# EAGLE library part 25P_SMT_D (library NewSDR)
Samtec 25 pin Surface Mount D-Sub Plug
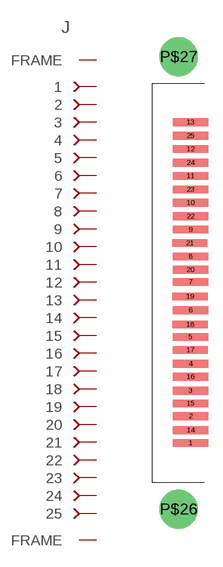
[diagram p4: symbol with the pads of 25P_SMD_D; footprint 25P_SMD_D]

Designator prefix J

## 25P_SMT_D  [25P_SMD_D]
1  1
2  2
3  3
4  4
5  5
6  6
7  7
8  8
9  9
10  10
11  11
12  12
13  13
14  14
15  15
16  16
17  17
18  18
19  19
20  20
21  21
22  22
23  23
24  24
25  25
P$26  FRAME
P$27  FRAME

## Footprint 25P_SMD_D (pad centres in mm)
Samtec 25 Pin Surface Mount D-SUB Plug
smd 3.708 x 0.813: 1 -0.038,-15.342; 2 -0.038,-12.535; 3 -0.038,-9.868; 4 -0.038,-7.061; 5 -0.038,-4.255; 6 -0.038,-1.448; 7 -0.038,1.499; 8 -0.038,4.166; 9 -0.038,6.972; 10 -0.038,9.779; 11 -0.038,12.586; 12 -0.038,15.392; 13 -0.038,18.199; 14 -0.025,-13.995; 15 -0.038,-11.201; 16 -0.051,-8.407; 17 -0.064,-5.613; 18 -0.076,-2.959; 19 -0.089,-0.025; 20 -0.06,2.769; 21 -0.114,5.563; 22 -0.038,8.357; 23 -0.038,11.163; 24 -0.038,13.97; 25 -0.038,16.777
drill 3.048: P$26 -1.296,-22.267; P$27 -1.295,25.042